# Altium schematic symbol library Hirose.SchLib: 7 symbols
Pins are listed as number, name and electrical type; pins without a type are passive.

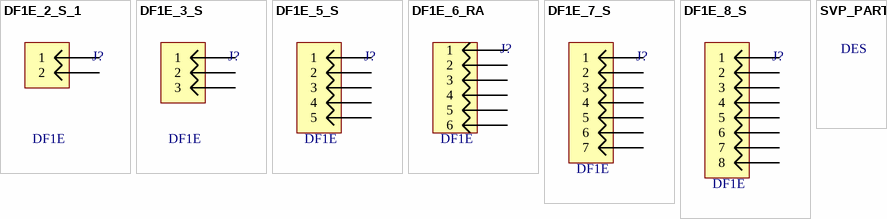
[diagram p0: symbols DF1E_2_S_1 to SVP_PART]

## DF1E_2_S_1
designator J?, comment value DF1E  (hidden comment: DF1E 2-pin Male Header)
2-pin Hirose; Manufacturer: Hirose Electric Co Ltd; Manufacturer PN: DF1EC-2P-2.5DSA(05); SVP Creator: Nate Untiedt; Package: DF1EC-2; Known Distributors: Digikey; HelpURL: http://umnsvp.dyndns.org/svn/centaurus2/datasheets/common%20parts/DF1E.pdf; ComponentLink1URL: http://umnsvp.dyndns.org/svn/centaurus2/datasheets/common%20parts/DF1E.pdf; ComponentLink1Description: Datasheet
footprint DF1EC-2P-2.5DSA
pins: 1, 2

## DF1E_3_S
designator J?, comment value DF1E  (hidden comment: DF1E 3-pin Male Header)
3-pin Hirose; Manufacturer: Hirose Electric Co Ltd; Manufacturer PN: DF1EC-3P-2.5DSA(05); SVP Creator: Matt Crane; Package: DF1EC-3; Known Distributors: Digikey; HelpURL: http://umnsvp.dyndns.org/svn/centaurus2/datasheets/common%20parts/DF1E.pdf; ComponentLink1URL: http://umnsvp.dyndns.org/svn/centaurus2/datasheets/common%20parts/DF1E.pdf; ComponentLink1Description: Datasheet
footprint DF1EC-3P-2.5DSA (3-pin DF1E connector straight)
pins: 1, 2, 3

## DF1E_5_S
designator J?, comment value DF1E  (hidden comment: DF1E 5-pin Male Header)
5-pin Hirose; Manufacturer: Hirose Electric Co Ltd; Manufacturer PN: DF1EC-5P-2.5DSA(05); SVP Creator: Adam Shea; Package: DF1EC-5; Known Distributors: Digikey; HelpURL: http://umnsvp.dyndns.org/svn/centaurus2/datasheets/common%20parts/DF1E.pdf; ComponentLink1URL: http://umnsvp.dyndns.org/svn/centaurus2/datasheets/common%20parts/DF1E.pdf; ComponentLink1Description: Datasheet
footprint DF1EC-5P-2.5DSA (5-pin DF1E connector straight)
pins: 1, 2, 3, 4, 5

## DF1E_6_RA
designator J?, comment value DF1E  (hidden comment: DF1E 5-pin Male Header)
6-pin Hirose RA; Manufacturer: Hirose Electric Co Ltd; Manufacturer PN: DF1E-6P-2.5DS(05); SVP Creator: Nate Bolyard; Package: DF1ERA-6; Known Distributors: Digikey; HelpURL: http://umnsvp.dyndns.org/svn/centaurus2/datasheets/common%20parts/DF1E.pdf; ComponentLink1URL: http://umnsvp.dyndns.org/svn/centaurus2/datasheets/common%20parts/DF1E.pdf; ComponentLink1Description: Datasheet
footprint DF1E-6P-2.5DS
pins: 1, 2, 3, 4, 5, 6

## DF1E_7_S
designator J?, comment value DF1E  (hidden comment: DF1E 5-pin Male Header)
7-pin Hirose; Manufacturer: Hirose Electric Co Ltd; Manufacturer PN: DF1EC-7P-2.5DSA(05); SVP Creator: Adam Shea; Package: DF1EC-7; Known Distributors: Digikey; HelpURL: http://umnsvp.dyndns.org/svn/centaurus2/datasheets/common%20parts/DF1E.pdf; ComponentLink1URL: http://umnsvp.dyndns.org/svn/centaurus2/datasheets/common%20parts/DF1E.pdf; ComponentLink1Description: Datasheet
footprint DF1EC-7P-2.5DSA (5-pin DF1E connector straight)
pins: 1, 2, 3, 4, 5, 6, 7

## DF1E_8_S
designator J?, comment value DF1E  (hidden comment: DF1E 5-pin Male Header)
9-pin Hirose; Manufacturer: Hirose Electric Co Ltd; Manufacturer PN: DF1EC-8P-2.5DSA(05); SVP Creator: Adam Shea; Package: DF1EC-8; Known Distributors: Digikey; HelpURL: http://umnsvp.dyndns.org/svn/centaurus2/datasheets/common%20parts/DF1E.pdf; ComponentLink1URL: http://umnsvp.dyndns.org/svn/centaurus2/datasheets/common%20parts/DF1E.pdf; ComponentLink1Description: Datasheet
footprint DF1EC-8P-2.5DSA (8-pin DF1E connector straight)
pins: 1, 2, 3, 4, 5, 6, 7, 8

## SVP_PART
designator DES  (value not drawn)
SVP Template; HelpURL: http://umnsvp.dyndns.org/svn/centaurus2/datasheets/; ComponentLink1URL: http://umnsvp.dyndns.org/svn/centaurus2/datasheets/; ComponentLink1Description: Datasheet